# Altium footprint library Stamp-C5.PcbLib: 1 footprints
Each footprint in its own frame and in the unit in brackets; x right, y up, seen from the top. Pads: shape width x height; smd on the part's side, far side on the other; paste and mask are expansions set on the pad; w line width, h text height; cw(c..) or ccw(c..) is an arc to the next point about the centre after c.
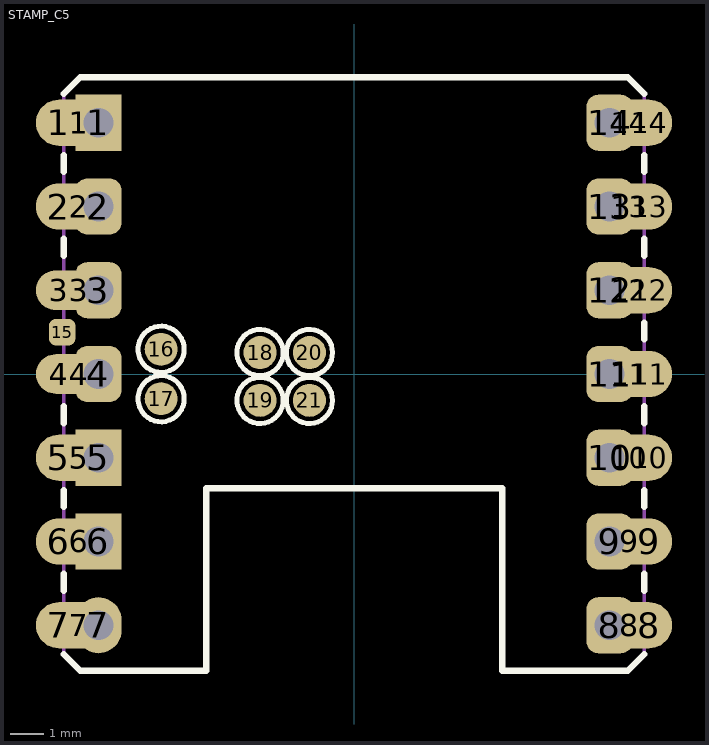
[diagram p0: the footprint, top view; thin cyan lines are the x and y axes]

## STAMP_C5 [mm]
pads (49):
  round 1.4 smd: 1(-8.95,7.62) 2(-8.95,5.08) 5(-8.95,-2.54) 6(-8.95,-5.08) 7(-8.95,-7.62) 8(8.95,-7.62) 9(8.95,-5.08) 10(8.95,-2.54) 11(8.95,0) 12(8.95,2.54) 13(8.95,5.08) 14(8.95,7.62)
  rect 1.2x1.4 smd paste-2539.97: 1(-8.35,7.62) 2(-8.35,5.08) 5(-8.35,-2.54) 6(-8.35,-5.08) 7(-8.35,-7.62) 8(8.35,-7.62) 9(8.35,-5.08) 10(8.35,-2.54) 11(8.35,0) 12(8.35,2.54) 13(8.35,5.08) 14(8.35,7.62)
  rect 1.4x1.7 / inner rect 1.4x1.7 / far side rect 1.4x1.4 hole 0.9 paste-2539.97: 1(-7.75,7.62) 5(-7.75,-2.54) 6(-7.75,-5.08)
  rrect50% 1.4x1.7 / inner rrect50% 1.4x1.7 / far side rrect50% 1.4x1.4 hole 0.9 paste-2539.97: 2(-7.75,5.08) 3(-7.75,2.54) 4(-7.75,0)
  oval 1.4x1.2 smd: 3(-8.95,2.54) 4(-8.95,0)
  rect 1.2x1.2 smd paste-2539.97: 3(-8.35,2.54) 4(-8.35,0)
  oval 1.4x1.7 / inner oval 1.4x1.7 / far side round 1.4 hole 0.9 paste-2539.97: 7(-7.75,-7.62)
  rrect50% 1.4x1.7 / inner rrect50% 1.4x1.7 / far side rrect50% 1.4x1.4 hole 0.9: 8(7.75,-7.62) 9(7.75,-5.08) 10(7.75,-2.54) 11(7.75,0) 12(7.75,2.54) 13(7.75,5.08) 14(7.75,7.62)
  rrect50% 0.8x0.8 smd mask+0.051: 15(-8.85,1.27)
  round 1 smd paste-1: 16(-5.85,0.75) 17(-5.85,-0.75) 18(-2.85,0.65) 19(-2.85,-0.8) 20(-1.35,0.65) 21(-1.35,-0.8)
Top Overlay:
  circle w0.152: c-1.35,0.65 r0.7
  circle w0.152: c-1.35,-0.8 r0.7
  circle w0.152: c-2.85,0.65 r0.7
  circle w0.152: c-2.85,-0.8 r0.7
  circle w0.152: c-5.85,-0.75 r0.7
  circle w0.152: c-5.85,0.75 r0.7
  lines w0.2: -8.8,-8.5 -8.3,-9 -4.48,-9 -4.48,-3.463 4.5,-3.463 4.5,-9 8.3,-9 8.8,-8.5 ; -8.8,-6.567 -8.8,-6.067 ; -8.8,-4.027 -8.8,-3.527 ; -8.8,-1.487 -8.8,-0.987 ; -8.8,3.593 -8.8,4.093 ; -8.8,6.133 -8.8,6.633 ; -8.8,8.5 -8.3,9 8.3,9 8.8,8.5 ; 8.8,-6.567 8.8,-6.067 ; 8.8,-4.027 8.8,-3.527 ; 8.8,-1.487 8.8,-0.987 ; 8.8,1.053 8.8,1.553 ; 8.8,3.593 8.8,4.093 ; 8.8,6.133 8.8,6.633
Mechanical 1:
  lines w0.1: -8.8,-8.5 -8.8,8.5 -8.3,9 8.3,9 8.8,8.5 8.8,-8.5 8.3,-9 4.5,-9 4.5,-3.463 -4.48,-3.463 -4.48,-9 -8.3,-9 -8.8,-8.5
3D body "Stamp_C5_PCB_main_V0.3_20260127_0940.step": height 3.36, standoff 0, extent -8.8,-10.063 8.8,9